# Altium footprint library Ad_Fpga.PcbLib: 52 footprints (part 2 of 4)
Each footprint in its own frame and in the unit in brackets; x right, y up, seen from the top. Pads: shape width x height; smd on the part's side, far side on the other; paste and mask are expansions set on the pad; w line width, h text height; cw(c..) or ccw(c..) is an arc to the next point about the centre after c.
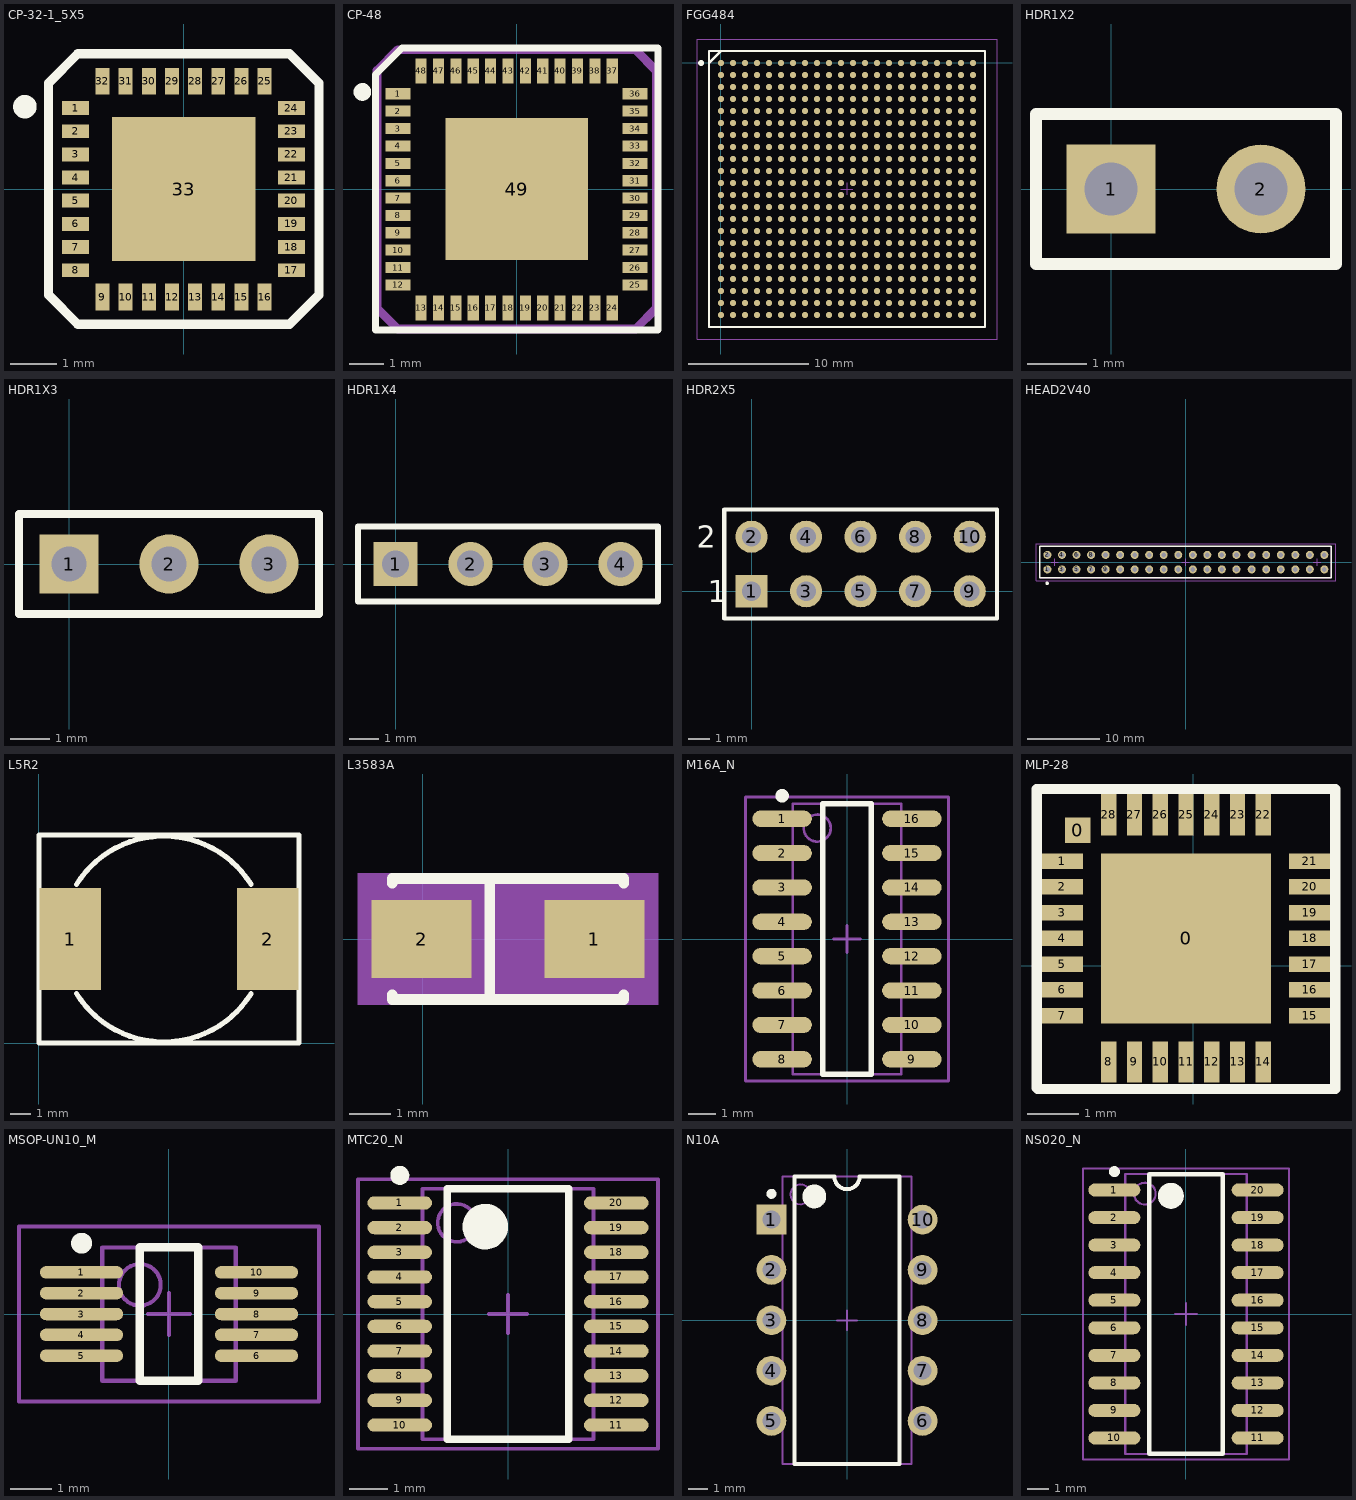
[diagram p1: the footprints below, top view; thin cyan lines are the x and y axes]

## CP-32-1_5X5 [mm]
height 2.54
pads (33):
  rect 0.58x0.3 smd: 1(-2.333,1.746) 2(-2.333,1.246) 3(-2.333,0.746) 4(-2.333,0.245) 5(-2.333,-0.253) 6(-2.333,-0.753) 7(-2.333,-1.253) 8(-2.333,-1.754) 17(2.326,-1.754) 18(2.326,-1.253) 19(2.326,-0.753) 20(2.326,-0.253) 21(2.326,0.245) 22(2.326,0.746) 23(2.326,1.246) 24(2.326,1.746)
  rect 0.3x0.58 smd: 9(-1.754,-2.333) 10(-1.253,-2.333) 11(-0.753,-2.333) 12(-0.253,-2.333) 13(0.245,-2.333) 14(0.746,-2.333) 15(1.246,-2.333) 16(1.746,-2.333) 25(1.746,2.326) 26(1.246,2.326) 27(0.746,2.326) 28(0.245,2.326) 29(-0.253,2.326) 30(-0.753,2.326) 31(-1.253,2.326) 32(-1.754,2.326)
  rect 3.1x3.1 smd: 33(0,0)
Top Overlay:
  circle w0.254: c-3.429,1.778 r0.127
  lines w0.2: -2.921,-2.286 -2.921,2.286 -2.286,2.921 2.286,2.921 2.921,2.286 2.921,-2.286 2.286,-2.921 -2.286,-2.921 -2.921,-2.286
Mechanical 16:
  lines w0.051: -2.884,2.234 -2.234,2.887 2.206,2.887 ; -2.884,2.26 -2.884,-2.239 -2.244,-2.876 2.229,-2.876 2.869,-2.239 2.879,-2.226 2.879,2.234 2.219,2.897

## CP-48 [mil]
height 100
pads (49):
  rect 28.3x12.6 smd: 1(-134.44,107.9) 2(-134.44,88.2) 3(-134.44,68.5) 4(-134.44,48.8) 5(-134.44,29.1) 6(-134.44,9.4) 7(-134.44,-10.2) 8(-134.44,-29.9) 9(-134.44,-49.6) 10(-134.44,-69.3) 11(-134.44,-89) 12(-134.44,-108.7) 25(134.16,-108.7) 26(134.16,-89) 27(134.16,-69.3) 28(134.16,-49.6) 29(134.16,-29.9) 30(134.16,-10.2) 31(134.16,9.4) 32(134.16,29.1) 33(134.16,48.8) 34(134.16,68.5) 35(134.16,88.2) 36(134.16,107.9)
  rect 12.6x28.3 smd: 13(-108.44,-134.7) 14(-88.74,-134.7) 15(-69.04,-134.7) 16(-49.34,-134.7) 17(-29.64,-134.7) 18(-9.94,-134.7) 19(9.66,-134.7) 20(29.36,-134.7) 21(49.06,-134.7) 22(68.76,-134.7) 23(88.46,-134.7) 24(108.16,-134.7) 37(108.16,133.9) 38(88.46,133.9) 39(68.76,133.9) 40(49.06,133.9) 41(29.36,133.9) 42(9.66,133.9) 43(-9.94,133.9) 44(-29.64,133.9) 45(-49.34,133.9) 46(-69.04,133.9) 47(-88.74,133.9) 48(-108.44,133.9)
  rect 161.42x161.42 smd: 49(0,0)
Top Overlay:
  circle w10: c-175,110 r5
  lines w7.87: -160,-160 -160,130 -130,160 160,160 160,-160 -160,-160
Mechanical 16:
  lines w10: -158.44,-135 -158.44,134.2 -134.74,157.9 134.46,157.9 158.16,134.2 158.16,-135 134.46,-158.7 -134.74,-158.7 -158.44,-135

## FGG484 [mm]
pads (484):
  round 0.5 smd: A1(0,0) A2(1,0) A3(2,0) A4(3,0) A5(4,0) A6(5,0) A7(6,0) A8(7,0) A9(8,0) A10(9,0) A11(10,0) A12(11,0) A13(12,0) A14(13,0) A15(14,0) A16(15,0) A17(16,0) A18(17,0) A19(18,0) A20(19,0) A21(20,0) A22(21,0) AA1(0,-20) AA2(1,-20) AA3(2,-20) AA4(3,-20) AA5(4,-20) AA6(5,-20) AA7(6,-20) AA8(7,-20) AA9(8,-20) AA10(9,-20) AA11(10,-20) AA12(11,-20) AA13(12,-20) AA14(13,-20) AA15(14,-20) AA16(15,-20) AA17(16,-20) AA18(17,-20) AA19(18,-20) AA20(19,-20) AA21(20,-20) AA22(21,-20) AB1(0,-21) AB2(1,-21) AB3(2,-21) AB4(3,-21) AB5(4,-21) AB6(5,-21) AB7(6,-21) AB8(7,-21) AB9(8,-21) AB10(9,-21) AB11(10,-21) AB12(11,-21) AB13(12,-21) AB14(13,-21) AB15(14,-21) AB16(15,-21) AB17(16,-21) AB18(17,-21) AB19(18,-21) AB20(19,-21) AB21(20,-21) AB22(21,-21) B1(0,-1) B2(1,-1) B3(2,-1) B4(3,-1) B5(4,-1) B6(5,-1) B7(6,-1) B8(7,-1) B9(8,-1) B10(9,-1) B11(10,-1) B12(11,-1) B13(12,-1) B14(13,-1) B15(14,-1) B16(15,-1) B17(16,-1) B18(17,-1) B19(18,-1) B20(19,-1) B21(20,-1) B22(21,-1) C1(0,-2) C2(1,-2) C3(2,-2) C4(3,-2) C5(4,-2) C6(5,-2) C7(6,-2) C8(7,-2) C9(8,-2) C10(9,-2) C11(10,-2) C12(11,-2) C13(12,-2) C14(13,-2) C15(14,-2) C16(15,-2) C17(16,-2) C18(17,-2) C19(18,-2) C20(19,-2) C21(20,-2) C22(21,-2) D1(0,-3) D2(1,-3) D3(2,-3) D4(3,-3) D5(4,-3) D6(5,-3) D7(6,-3) D8(7,-3) D9(8,-3) D10(9,-3) D11(10,-3) D12(11,-3) D13(12,-3) D14(13,-3) D15(14,-3) D16(15,-3) D17(16,-3) D18(17,-3) D19(18,-3) D20(19,-3) D21(20,-3) D22(21,-3) E1(0,-4) E2(1,-4) E3(2,-4) E4(3,-4) E5(4,-4) E6(5,-4) E7(6,-4) E8(7,-4) E9(8,-4) E10(9,-4) E11(10,-4) E12(11,-4) E13(12,-4) E14(13,-4) E15(14,-4) E16(15,-4) E17(16,-4) E18(17,-4) E19(18,-4) E20(19,-4) E21(20,-4) E22(21,-4) F1(0,-5) F2(1,-5) F3(2,-5) F4(3,-5) F5(4,-5) F6(5,-5) F7(6,-5) F8(7,-5) F9(8,-5) F10(9,-5) F11(10,-5) F12(11,-5) F13(12,-5) F14(13,-5) F15(14,-5) F16(15,-5) F17(16,-5) F18(17,-5) F19(18,-5) F20(19,-5) F21(20,-5) F22(21,-5) G1(0,-6) G2(1,-6) G3(2,-6) G4(3,-6) G5(4,-6) G6(5,-6) G7(6,-6) G8(7,-6) G9(8,-6) G10(9,-6) G11(10,-6) G12(11,-6) G13(12,-6) G14(13,-6) G15(14,-6) G16(15,-6) G17(16,-6) G18(17,-6) G19(18,-6) G20(19,-6) G21(20,-6) G22(21,-6) H1(0,-7) H2(1,-7) H3(2,-7) H4(3,-7) H5(4,-7) H6(5,-7) H7(6,-7) H8(7,-7) H9(8,-7) H10(9,-7) H11(10,-7) H12(11,-7) H13(12,-7) H14(13,-7) H15(14,-7) H16(15,-7) H17(16,-7) H18(17,-7) H19(18,-7) H20(19,-7) H21(20,-7) H22(21,-7) J1(0,-8) J2(1,-8) J3(2,-8) J4(3,-8) J5(4,-8) J6(5,-8) J7(6,-8) J8(7,-8) J9(8,-8) J10(9,-8) J11(10,-8) J12(11,-8) J13(12,-8) J14(13,-8) J15(14,-8) J16(15,-8) J17(16,-8) J18(17,-8) J19(18,-8) J20(19,-8) J21(20,-8) J22(21,-8) K1(0,-9) K2(1,-9) K3(2,-9) K4(3,-9) K5(4,-9) K6(5,-9) K7(6,-9) K8(7,-9) K9(8,-9) K10(9,-9) K11(10,-9) K12(11,-9) K13(12,-9) K14(13,-9) K15(14,-9) K16(15,-9) K17(16,-9) K18(17,-9) K19(18,-9) K20(19,-9) K21(20,-9) K22(21,-9) L1(0,-10) L2(1,-10) L3(2,-10) L4(3,-10) L5(4,-10) L6(5,-10) L7(6,-10) L8(7,-10) L9(8,-10) L10(9,-10) L11(10,-10) L12(11,-10) L13(12,-10) L14(13,-10) L15(14,-10) L16(15,-10) L17(16,-10) L18(17,-10) L19(18,-10) L20(19,-10) L21(20,-10) L22(21,-10) M1(0,-11) M2(1,-11) M3(2,-11) M4(3,-11) M5(4,-11) M6(5,-11) M7(6,-11) M8(7,-11) M9(8,-11) M10(9,-11) M11(10,-11) M12(11,-11) M13(12,-11) M14(13,-11) M15(14,-11) M16(15,-11) M17(16,-11) M18(17,-11) M19(18,-11) M20(19,-11) M21(20,-11) M22(21,-11) N1(0,-12) N2(1,-12) N3(2,-12) N4(3,-12) N5(4,-12) N6(5,-12) N7(6,-12) N8(7,-12) N9(8,-12) N10(9,-12) N11(10,-12) N12(11,-12) N13(12,-12) N14(13,-12) N15(14,-12) N16(15,-12) N17(16,-12) N18(17,-12) N19(18,-12) N20(19,-12) N21(20,-12) N22(21,-12) P1(0,-13) P2(1,-13) P3(2,-13) P4(3,-13) P5(4,-13) P6(5,-13) P7(6,-13) P8(7,-13) P9(8,-13) P10(9,-13) P11(10,-13) P12(11,-13) P13(12,-13) P14(13,-13) P15(14,-13) P16(15,-13) P17(16,-13) P18(17,-13) P19(18,-13) P20(19,-13) P21(20,-13) P22(21,-13) R1(0,-14) R2(1,-14) R3(2,-14) R4(3,-14) R5(4,-14) R6(5,-14) R7(6,-14) R8(7,-14) R9(8,-14) R10(9,-14) R11(10,-14) R12(11,-14) R13(12,-14) R14(13,-14) R15(14,-14) R16(15,-14) R17(16,-14) R18(17,-14) R19(18,-14) R20(19,-14) R21(20,-14) R22(21,-14) T1(0,-15) T2(1,-15) T3(2,-15) T4(3,-15) T5(4,-15) T6(5,-15) T7(6,-15) T8(7,-15) T9(8,-15) T10(9,-15) T11(10,-15) T12(11,-15) T13(12,-15) T14(13,-15) T15(14,-15) T16(15,-15) T17(16,-15) T18(17,-15) T19(18,-15) T20(19,-15) T21(20,-15) T22(21,-15) U1(0,-16) U2(1,-16) U3(2,-16) U4(3,-16) U5(4,-16) U6(5,-16) U7(6,-16) U8(7,-16) U9(8,-16) U10(9,-16) U11(10,-16) U12(11,-16) U13(12,-16) U14(13,-16) U15(14,-16) U16(15,-16) U17(16,-16) U18(17,-16) U19(18,-16) U20(19,-16) U21(20,-16) U22(21,-16) V1(0,-17) V2(1,-17) V3(2,-17) V4(3,-17) V5(4,-17) V6(5,-17) V7(6,-17) V8(7,-17) V9(8,-17) V10(9,-17) V11(10,-17) V12(11,-17) V13(12,-17) V14(13,-17) V15(14,-17) V16(15,-17) V17(16,-17) V18(17,-17) V19(18,-17) V20(19,-17) V21(20,-17) V22(21,-17) W1(0,-18) W2(1,-18) W3(2,-18) W4(3,-18) W5(4,-18) W6(5,-18) W7(6,-18) W8(7,-18) W9(8,-18) W10(9,-18) W11(10,-18) W12(11,-18) W13(12,-18) W14(13,-18) W15(14,-18) W16(15,-18) W17(16,-18) W18(17,-18) W19(18,-18) W20(19,-18) W21(20,-18) W22(21,-18) Y1(0,-19) Y2(1,-19) Y3(2,-19) Y4(3,-19) Y5(4,-19) Y6(5,-19) Y7(6,-19) Y8(7,-19) Y9(8,-19) Y10(9,-19) Y11(10,-19) Y12(11,-19) Y13(12,-19) Y14(13,-19) Y15(14,-19) Y16(15,-19) Y17(16,-19) Y18(17,-19) Y19(18,-19) Y20(19,-19) Y21(20,-19) Y22(21,-19)
Top Overlay:
  circle w0.25: c-1.65,0 r0.125
  lines w0.2: -1,0 0,1 ; -1,-22 -1,1 22,1 22,-22 -1,-22
Mechanical 13:
  lines w0.1: -1,-22 -1,1 22,1 22,-22 -1,-22
Mechanical 15:
  lines w0.1: 10,-10.5 11,-10.5 ; 10.5,-11 10.5,-10 ; -2,-23 -2,2 23,2 23,-23 -2,-23

## HDR1X2 [mm]
height 1.35
pads (2):
  rect 1.5x1.5 hole 0.9: 1(0,0)
  round 1.5 hole 0.9: 2(2.54,0)
Top Overlay:
  lines w0.2: -1.27,-1.27 3.81,-1.27 3.81,1.27 -1.27,1.27 -1.27,-1.27

## HDR1X3 [mm]
height 1.35
pads (3):
  rect 1.5x1.5 hole 0.9: 1(0,0)
  round 1.5 hole 0.9: 2(2.54,0) 3(5.08,0)
Top Overlay:
  lines w0.2: -1.27,-1.27 6.35,-1.27 6.35,1.27 -1.27,1.27 -1.27,-1.27

## HDR1X4 [mm] "Connector; Header; 4 Position"
height 1.1
pads (4):
  rect 1.5x1.5 hole 0.9: 1(0,0)
  round 1.5 hole 0.9: 2(2.54,0) 3(5.08,0) 4(7.62,0)
Top Overlay:
  lines w0.2: -1.27,-1.27 -1.27,1.27 8.89,1.27 8.89,-1.27 -1.27,-1.27

## HDR2X5 [mm] "Connector; Header; 5x2 Position"
height 3
pads (10):
  rect 1.5x1.5 hole 0.9: 1(0,0)
  round 1.5 hole 0.9: 2(0,2.54) 3(2.54,0) 4(2.54,2.54) 5(5.08,0) 6(5.08,2.54) 7(7.62,0) 8(7.62,2.54) 9(10.16,0) 10(10.16,2.54)
Top Overlay:
  lines w0.2: -1.27,-1.27 11.43,-1.27 11.43,3.81 -1.27,3.81 -1.27,-1.27
  text "1" at -2.032,-0.508 h1.02
  text "2" at -2.54,2.032 h1.02

## HEAD2V40 [mm]
height 4.8
pads (40):
  round 1.1 hole 0.65: 1(-19,-1) 2(-19,1) 3(-17,-1) 4(-17,1) 5(-15,-1) 6(-15,1) 7(-13,-1) 8(-13,1) 9(-11,-1) 10(-11,1) 11(-9,-1) 12(-9,1) 13(-7,-1) 14(-7,1) 15(-5,-1) 16(-5,1) 17(-3,-1) 18(-3,1) 19(-1,-1) 20(-1,1) 21(1,-1) 22(1,1) 23(3,-1) 24(3,1) 25(5,-1) 26(5,1) 27(7,-1) 28(7,1) 29(9.1,-1) 30(9.1,1) 31(11.1,-1) 32(11.1,1) 33(13.1,-1) 34(13.1,1) 35(15.1,-1) 36(15.1,1) 37(17.1,-1) 38(17.1,1) 39(19.1,-1) 40(19.1,1)
Top Overlay:
  circle w0.25: c-19.048,-2.921 r0.125
  lines w0.2: -20.066,2.159 -20.066,-2.159 -1.775,-2.159 ; -20.063,2.159 1.878,2.159 ; -1.778,-2.159 20.066,-2.159 20.066,2.159 1.875,2.159
Mechanical 13:
  lines w0.1: -20.066,2.159 -20.066,-2.159 20.066,-2.159 20.066,2.159 ; 20.066,2.159 -19.966,2.159 20.066,2.159
Mechanical 15:
  lines w0.1: -18.5,0 -17.5,0 ; -18,-0.5 -18,0.5 ; -0.5,0 0.5,0 ; 0,-0.5 0,0.5 ; 17.6,0 18.6,0 ; 18.1,-0.5 18.1,0.5 ; -20.574,-2.54 -20.574,2.54 20.701,2.54 20.701,-2.54 -20.574,-2.54
3D body: height 4.8, standoff 0, extent -20.073,-2.173 20.066,2.159

## L5R2 [mm]
height 2.54
pads (2):
  rect 3x5 smd: 1(1.524,5.08) 2(11.176,5.08)
Top Overlay:
  lines w0.254: 1.831,2.415 ccw(c6.096,5.08) 10.361,2.415 ; 1.831,7.745 cw(c6.096,5.08) 10.361,7.745 ; 0,0 0,10.16 12.7,10.16 12.7,0 0,0

## L3583A [mil]
pads (2):
  rect 95x74.02 smd: 1(163.02,0) 2(-1,0)
Top Overlay:
  lines w10: -28.99,-52.99 -28.99,-57.48 191.01,-57.48 191.01,-52.99 ; -28.99,52.99 -28.99,57.48 191.01,57.48 191.01,52.99 ; 63.53,-57.48 63.53,57.48
Mechanical 16:
  region: -61.51,-62.52 223.53,-62.52 223.53,62.52 -61.51,62.52
  lines w5.12: 63.53,-57.48 63.53,57.48 ; -56.47,-57.48 -56.47,57.48 218.49,57.48 218.49,-57.48 -56.47,-57.48

## M16A_N [mm] "SOIC, 16-Leads, Body 9.9x3.9mm, Pitch 1.27mm, IPC Medium Density"
height 1.75
pads (16):
  oval 2.2x0.6 smd: 1(-2.4,4.445) 2(-2.4,3.175) 3(-2.4,1.905) 4(-2.4,0.635) 5(-2.4,-0.635) 6(-2.4,-1.905) 7(-2.4,-3.175) 8(-2.4,-4.445) 9(2.4,-4.445) 10(2.4,-3.175) 11(2.4,-1.905) 12(2.4,-0.635) 13(2.4,0.635) 14(2.4,1.905) 15(2.4,3.175) 16(2.4,4.445)
Top Overlay:
  circle w0.25: c-2.4,5.295 r0.125
  lines w0.2: -0.9,-5 -0.9,5 0.9,5 0.9,-5 -0.9,-5
Mechanical 13:
  circle w0.1: c-1.1,4.1 r0.5
  lines w0.1: -2,-5 -2,5 2,5 2,-5 -2,-5
Mechanical 15:
  lines w0.1: -0.5,0 0.5,0 ; 0,-0.5 0,0.5 ; -3.75,-5.25 -3.75,5.25 3.75,5.25 3.75,-5.25 -3.75,-5.25
3D body: height 1.75, standoff 0, extent -2,-5 2,5

## MLP-28 [mm]
pads (30):
  rect 0.5x0.5 smd: 0(-2.24,2.632)
  rect 3.3x3.3 smd: 0(-0.14,0.532)
  rect 0.8x0.3 smd: 1(-2.54,2.032) 2(-2.54,1.532) 3(-2.54,1.032) 4(-2.54,0.532) 5(-2.54,0.032) 6(-2.54,-0.468) 7(-2.54,-0.968) 15(2.26,-0.968) 16(2.26,-0.468) 17(2.26,0.032) 18(2.26,0.532) 19(2.26,1.032) 20(2.26,1.532) 21(2.26,2.032)
  rect 0.3x0.8 smd: 8(-1.64,-1.868) 9(-1.14,-1.868) 10(-0.64,-1.868) 11(-0.14,-1.868) 12(0.36,-1.868) 13(0.86,-1.868) 14(1.36,-1.868) 22(1.36,2.932) 23(0.86,2.932) 24(0.36,2.932) 25(-0.14,2.932) 26(-0.64,2.932) 27(-1.14,2.932) 28(-1.64,2.932)
Top Overlay:
  lines w0.203: -3.04,-2.368 -3.04,3.432 2.76,3.432 2.76,-2.393 -3.015,-2.393

## MSOP-UN10_M [mm] "TSSOP, 10-Leads, Body 3x3mm, Pitch 0.5mm, IPC Low Density"
height 1.1
pads (10):
  oval 2x0.3 smd: 1(-2.1,1) 2(-2.1,0.5) 3(-2.1,0) 4(-2.1,-0.5) 5(-2.1,-1) 6(2.1,-1) 7(2.1,-0.5) 8(2.1,0) 9(2.1,0.5) 10(2.1,1)
Top Overlay:
  circle w0.25: c-2.1,1.7 r0.125
  lines w0.2: -0.7,-1.6 -0.7,1.6 0.7,1.6 0.7,-1.6 -0.7,-1.6
Mechanical 13:
  circle w0.1: c-0.7,0.7 r0.5
  lines w0.1: -1.6,-1.6 -1.6,1.6 1.6,1.6 1.6,-1.6 -1.6,-1.6
Mechanical 15:
  lines w0.1: -0.5,0 0.5,0 ; 0,-0.5 0,0.5 ; -3.6,-2.1 -3.6,2.1 3.6,2.1 3.6,-2.1 -3.6,-2.1
3D body: height 1.1, standoff 0, extent -1.6,-1.6 1.6,1.6

## MTC20_N [mm] "TSOP, 20-Leads, Body 6.5x4.4mm, Pitch 0.65mm, IPC Medium Density"
height 1.1
pads (20):
  oval 1.7x0.35 smd: 1(-2.85,2.925) 2(-2.85,2.275) 3(-2.85,1.625) 4(-2.85,0.975) 5(-2.85,0.325) 6(-2.85,-0.325) 7(-2.85,-0.975) 8(-2.85,-1.625) 9(-2.85,-2.275) 10(-2.85,-2.925) 11(2.85,-2.925) 12(2.85,-2.275) 13(2.85,-1.625) 14(2.85,-0.975) 15(2.85,-0.325) 16(2.85,0.325) 17(2.85,0.975) 18(2.85,1.625) 19(2.85,2.275) 20(2.85,2.925)
Top Overlay:
  circle w0.25: c-2.85,3.65 r0.125
  circle w0.6: c-0.6,2.3 r0.3
  lines w0.2: -1.6,-3.3 -1.6,3.3 1.6,3.3 1.6,-3.3 -1.6,-3.3
Mechanical 13:
  circle w0.1: c-1.35,2.4 r0.5
  lines w0.1: -2.25,-3.3 -2.25,3.3 2.25,3.3 2.25,-3.3 -2.25,-3.3
Mechanical 15:
  lines w0.1: -0.5,0 0.5,0 ; 0,-0.5 0,0.5 ; -3.95,-3.55 -3.95,3.55 3.95,3.55 3.95,-3.55 -3.95,-3.55
3D body: height 1.1, standoff 0, extent -2.25,-3.3 2.25,3.3

## N10A [mm] "DIP; 10 Leads; Row Spacing 7.62 mm; Pitch 2.54 mm"
height 5.08
pads (10):
  rect 1.5x1.5 hole 0.9: 1(-3.81,5.08)
  round 1.5 hole 0.9: 2(-3.81,2.54) 3(-3.81,0) 4(-3.81,-2.54) 5(-3.81,-5.08) 6(3.81,-5.08) 7(3.81,-2.54) 8(3.81,0) 9(3.81,2.54) 10(3.81,5.08)
Top Overlay:
  circle w0.25: c-3.81,6.38 r0.125
  circle w0.6: c-1.65,6.25 r0.3
  lines w0.2: -2.65,-7.25 -2.65,7.25 -0.635,7.25 ccw(c0,7.25) 0.635,7.25 2.65,7.25 2.65,-7.25 -2.65,-7.25
Mechanical 13:
  circle w0.1: c-2.35,6.35 r0.5
  lines w0.1: -3.25,-7.25 -3.25,7.25 3.25,7.25 3.25,-7.25 -3.25,-7.25
Mechanical 15:
  lines w0.1: -0.5,0 0.5,0 ; 0,-0.5 0,0.5
3D body: height 5.08, standoff 0, extent -3.25,-7.25 3.25,7.25

## NS020_N [mm] "20-Pin Small Outline Package 1.27 mm Pitch, IPC Medium Density"
height 2
pads (20):
  oval 2.4x0.6 smd: 1(-3.3,5.715) 2(-3.3,4.445) 3(-3.3,3.175) 4(-3.3,1.905) 5(-3.3,0.635) 6(-3.3,-0.635) 7(-3.3,-1.905) 8(-3.3,-3.175) 9(-3.3,-4.445) 10(-3.3,-5.715) 11(3.3,-5.715) 12(3.3,-4.445) 13(3.3,-3.175) 14(3.3,-1.905) 15(3.3,-0.635) 16(3.3,0.635) 17(3.3,1.905) 18(3.3,3.175) 19(3.3,4.445) 20(3.3,5.715)
Top Overlay:
  circle w0.25: c-3.3,6.565 r0.125
  circle w0.6: c-0.7,5.45 r0.3
  lines w0.2: -1.7,-6.45 -1.7,6.45 1.7,6.45 1.7,-6.45 -1.7,-6.45
Mechanical 13:
  circle w0.1: c-1.9,5.55 r0.5
  lines w0.1: -2.8,-6.45 -2.8,6.45 2.8,6.45 2.8,-6.45 -2.8,-6.45
Mechanical 15:
  lines w0.1: -0.5,0 0.5,0 ; 0,-0.5 0,0.5 ; -4.75,-6.7 -4.75,6.7 4.75,6.7 4.75,-6.7 -4.75,-6.7
3D body: height 2, standoff 0, extent -2.8,-6.45 2.8,6.45